# EAGLE library part KSZ8863MLL/FLL/RLL (library micrel)
3-Port 10/100 Managed Switch 2.5/3.3 V Integrated 3-Port 10/100
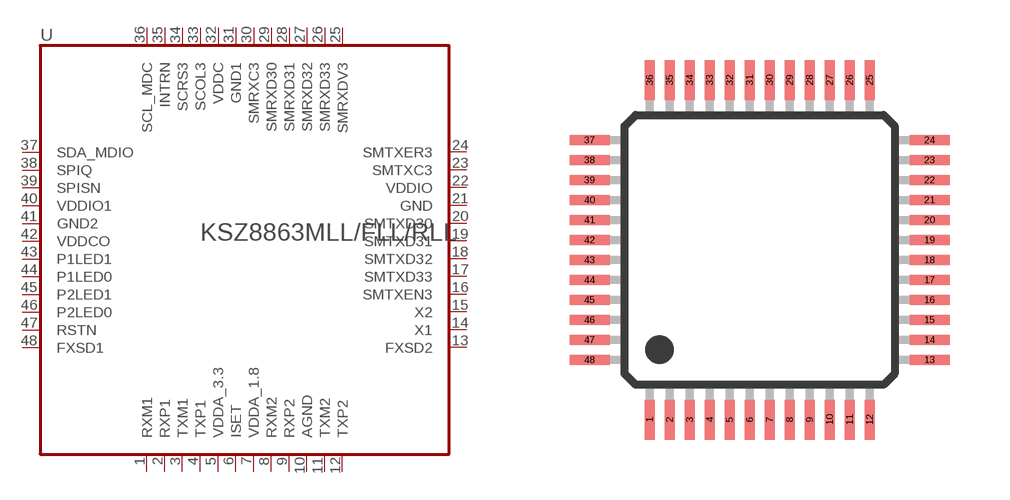
[diagram p11: symbol with the pads of LQFP48; footprint LQFP48]

Designator prefix U

## KSZ8863MLL/FLL/RLL  [LQFP48]
1  RXM1
2  RXP1
3  TXM1
4  TXP1
5  VDDA_3.3  pwr
6  ISET  pas
7  VDDA_1.8  pwr
8  RXM2
9  RXP2
10  AGND  pwr
11  TXM2
12  TXP2
13  FXSD2  pas
14  X1  in
15  X2  out
16  SMTXEN3  in
17  SMTXD33
18  SMTXD32
19  SMTXD31  in
20  SMTXD30
21  GND  pwr
22  VDDIO  pwr
23  SMTXC3
24  SMTXER3  in
25  SMRXDV3  out
26  SMRXD33  out
27  SMRXD32  out
28  SMRXD31  out
29  SMRXD30  out
30  SMRXC3
31  GND1  pwr
32  VDDC  pwr
33  SCOL3
34  SCRS3
35  INTRN  out
36  SCL_MDC
37  SDA_MDIO
38  SPIQ  out
39  SPISN  in
40  VDDIO1  pwr
41  GND2  pwr
42  VDDCO  pwr
43  P1LED1  out
44  P1LED0  out
45  P2LED1  out
46  P2LED0  out
47  RSTN  in
48  FXSD1  pas

## Footprint LQFP48 (pad centres in mm)
LQFP48
smd 0.25 x 1: 1 -2.75,-4.25; 2 -2.25,-4.25; 3 -1.75,-4.25; 4 -1.25,-4.25; 5 -0.75,-4.25; 6 -0.25,-4.25; 7 0.25,-4.25; 8 0.75,-4.25; 9 1.25,-4.25; 10 1.75,-4.25; 11 2.25,-4.25; 12 2.75,-4.25; 25 2.75,4.25; 26 2.25,4.25; 27 1.75,4.25; 28 1.25,4.25; 29 0.75,4.25; 30 0.25,4.25; 31 -0.25,4.25; 32 -0.75,4.25; 33 -1.25,4.25; 34 -1.75,4.25; 35 -2.25,4.25; 36 -2.75,4.25
smd 1 x 0.25: 13 4.25,-2.75; 14 4.25,-2.25; 15 4.25,-1.75; 16 4.25,-1.25; 17 4.25,-0.75; 18 4.25,-0.25; 19 4.25,0.25; 20 4.25,0.75; 21 4.25,1.25; 22 4.25,1.75; 23 4.25,2.25; 24 4.25,2.75; 37 -4.25,2.75; 38 -4.25,2.25; 39 -4.25,1.75; 40 -4.25,1.25; 41 -4.25,0.75; 42 -4.25,0.25; 43 -4.25,-0.25; 44 -4.25,-0.75; 45 -4.25,-1.25; 46 -4.25,-1.75; 47 -4.25,-2.25; 48 -4.25,-2.75